# Altium schematic symbol library lipo_fuel_gauge.SchLib: 1 symbol
Pins are listed as number, name and electrical type; pins without a type are passive.

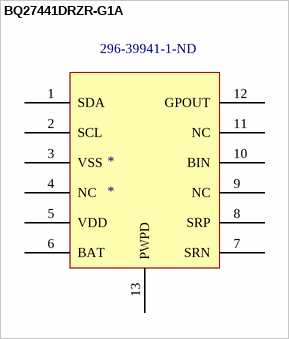
[diagram p0: symbol BQ27441DRZR-G1A]

## BQ27441DRZR-G1A
designator *  Supplier Part Number 1: 296-39941-1-ND
Manufacturer: Texas Instruments; Manufacturer Part Number: BQ27441DRZR-G1A; Number of Cells: 1; Interface: I2C; Capacity: 8000mAh; Output Voltage: 600mV; Output Current: 500uA; Operating Supply Voltage: 4.5V; Supplier 1: Digi-Key; RoHS: Yes; Stock 1: 20268; Pricing 1: 1 = 2.62000, 10 = 2.35300, 100 = 1.89110, 500 = 1.55376, 1000 = 1.28740 (USD); Mount: Surface Mount; Case/Package: QFN; Number of Pins: 12; Contact Plating: Gold; Min Operating Temperature: -40°C; Max Operating Temperature: 85°C; Package Quantity: 3000; Packaging: Tape and Reel; Lead Free: Lead Free
footprint *SON40P400X250X100-13N
pins: 1 SDA, 2 SCL, 3 VSS, 4 NC, 5 VDD, 6 BAT, 7 SRN, 8 SRP, 9 NC, 10 BIN, 11 NC, 12 GPOUT, 13 PWPD